# Altium footprint library transistor-pnp.PCBLIB: 37 footprints (part 2 of 3)
Each footprint in its own frame and in the unit in brackets; x right, y up, seen from the top. Pads: shape width x height; smd on the part's side, far side on the other; paste and mask are expansions set on the pad; w line width, h text height; cw(c..) or ccw(c..) is an arc to the next point about the centre after c.
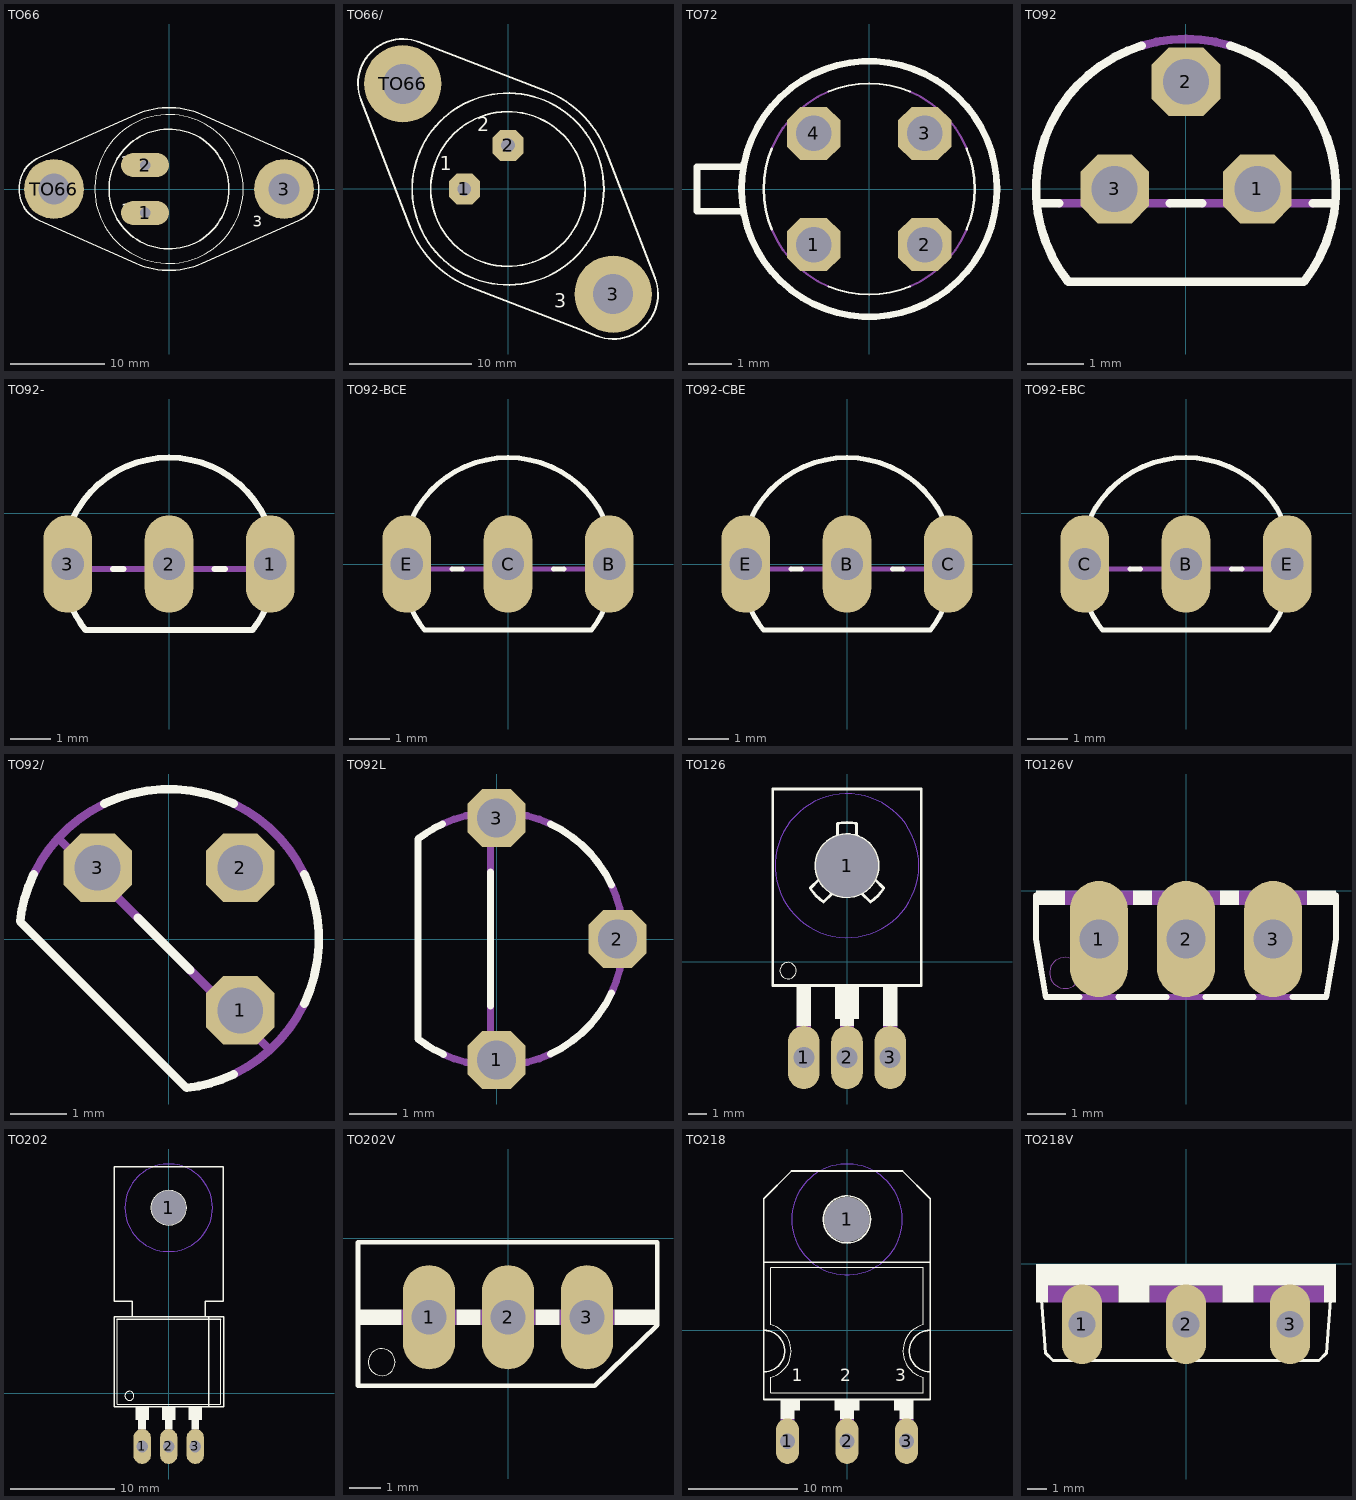
[diagram p1: the footprints below, top view; thin cyan lines are the x and y axes]

## TO66 [mil]
pads (4):
  oval 200x100 hole 44: 1(-100,-100) 2(-100,100)
  round 250 hole 130: 3(480,0) TO66(-480,0)
Top Overlay:
  circle w2: c0,0 r310
  circle w6: c0,0 r250
  lines w6: -539.8,-132.56 cw(c-481.02,-0.01) -539.8,132.54 -137.83,310.83 cw(c0.01,0.03) 137.84,310.83 539.8,132.56 cw(c481.02,-0.01) 539.8,-132.56 137.83,-310.83 cw(c0.01,-0.03) -137.83,-310.83 -539.8,-132.56
  text "3" at 350,-175 h77.5
  text "2" at -200,75 h77.5
  text "1" at -200,-125 h77.5
Mechanical 16:
  circle w6: c-480,0 r75
  circle w6: c480,0 r75

## TO66/ [mil]
pads (4):
  oct 100x100 hole 44: 1(-141,0) 2(0,141)
  round 250 hole 130: 3(340,-340) TO66(-340,340)
Top Overlay:
  circle w6: c0,0 r310
  circle w6: c0,0 r250
  lines w6: -287.98,475.41 ccw(c-340.14,340.11) -475.43,287.95 -317.24,-122.32 ccw(c-0.01,-0.02) -122.31,-317.25 287.95,-475.43 ccw(c340.11,-340.14) 475.41,-287.98 ; -287.95,475.43 122.32,317.24 cw(c0.02,0) 317.26,122.31 475.43,-287.95
  text "1" at -220,45 h77.5
  text "2" at -100,170 h77.5
  text "3" at 150,-400 h77.5
Mechanical 16:
  circle w6: c-339.41,339.41 r75
  circle w6: c339.41,-339.41 r75

## TO72 [mil]
pads (4):
  oct 48x48 hole 32: 1(-50,-50) 2(50,-50) 3(50,50) 4(-50,50)
Top Overlay:
  circle w6: c0,0 r115
  lines w2: -87.68,-36.57 cw(c0,0) -87.68,36.57 ; -36.57,-87.68 ccw(c0,0) 36.57,-87.68 ; -36.57,87.68 cw(c0,0) 36.57,87.68 ; 87.68,-36.57 ccw(c0,0) 87.68,36.57
  lines w6: -114,-20 -155,-20 -155,20 -114,20
Mechanical 16:
  lines w2: -87.68,-36.57 ccw(c0,0) -36.57,-87.68 ; -87.68,36.57 cw(c0,0) -36.57,87.68 ; 36.57,-87.68 ccw(c0,0) 87.68,-36.57 ; 36.57,87.68 cw(c0,0) 87.68,36.57
  text "1" at -65,-65 h77.5
  text "2" at 20,-65 h77.5
  text "3" at 20,15 h77.5
  text "4" at -65,15 h77.5

## TO92 [mil]
pads (3):
  oct 48x48 hole 32: 1(50,0) 2(0,75) 3(-50,0)
Top Overlay:
  lines w6: -104.53,-10 -88.74,-10 ; -82.48,-65 82.48,-65 ccw(c0.02,0) 30.98,100.33 ; -82.46,-65 cw(c0,0) -30.96,100.33 ; -11.26,-10 11.26,-10 ; 88.74,-10 104.53,-10
Mechanical 16:
  lines w6: -88.74,-10 -11.26,-10 ; -30.96,100.33 cw(c0,-0.02) 30.96,100.33 ; 11.26,-10 88.74,-10
  text "1" at 45,0 h77.5
  text "2" at -25,25 h77.5
  text "3" at -85,0 h77.5

## TO92- [mil]
pads (3):
  oval 48x96 hole 32: 1(100,-50) 2(0,-50) 3(-100,-50)
Top Overlay:
  lines w6: -95.02,-94.72 ccw(c-0.02,-49.99) -82.48,-115 82.48,-115 ccw(c0.01,-50) 95.46,-93.77 ; -95,-5.28 cw(c0,-50) 95,-5.28 ; -55.28,-55 -44.72,-55 ; 44.72,-55 55.28,-55
Mechanical 16:
  lines w6: -104.88,-55 -55.28,-55 ; -95,-94.72 cw(c0,-50) -95,-5.28 ; -44.72,-55 44.72,-55 ; 55.28,-55 104.88,-55 ; 95,-94.72 ccw(c0,-50) 95,-5.28

## TO92-BCE [mil]
pads (3):
  oval 48x96 hole 32: B(100,0) C(0,0) E(-100,0)
Top Overlay:
  lines w5: -95.02,-44.72 ccw(c-0.02,0.01) -82.48,-65 82.48,-65 ccw(c0.01,0) 95.46,-43.77 ; -95,44.72 cw(c0,0) 95,44.72 ; -55.28,-5 -44.72,-5 ; 44.72,-5 55.28,-5
Mechanical 16:
  lines w5: -104.88,-5 -55.28,-5 ; -95,-44.72 cw(c0,0) -95,44.72 ; -44.72,-5 44.72,-5 ; 55.28,-5 104.88,-5 ; 95,-44.72 ccw(c0,0) 95,44.72

## TO92-CBE [mil]
pads (3):
  oval 48x96 hole 32: B(0,0) C(100,0) E(-100,0)
Top Overlay:
  lines w5: -95.02,-44.72 ccw(c-0.02,0.01) -82.48,-65 82.48,-65 ccw(c0.01,0) 95.46,-43.77 ; -95,44.72 cw(c0,0) 95,44.72 ; -55.28,-5 -44.72,-5 ; 44.72,-5 55.28,-5
Mechanical 16:
  lines w5: -104.88,-5 -55.28,-5 ; -95,-44.72 cw(c0,0) -95,44.72 ; -44.72,-5 44.72,-5 ; 55.28,-5 104.88,-5 ; 95,-44.72 ccw(c0,0) 95,44.72

## TO92-EBC [mil]
pads (3):
  oval 48x96 hole 32: B(0,-50) C(-100,-50) E(100,-50)
Top Overlay:
  lines w5: -95.02,-94.72 ccw(c-0.02,-49.99) -82.48,-115 82.48,-115 ccw(c0.01,-50) 95.46,-93.77 ; -95,-5.28 cw(c0,-50) 95,-5.28 ; -55.28,-55 -44.72,-55 ; 44.72,-55 55.28,-55
Mechanical 16:
  lines w5: -104.88,-55 -55.28,-55 ; -95,-94.72 cw(c0,-50) -95,-5.28 ; -44.72,-55 44.72,-55 ; 55.28,-55 104.88,-55 ; 95,-94.72 ccw(c0,-50) 95,-5.28

## TO92/ [mil]
pads (3):
  oct 48x48 hole 32: 1(50,-50) 2(50,50) 3(-50,50)
Top Overlay:
  lines w6: -94.77,45.27 ccw(c-0.01,0.03) -104.29,12.36 12.36,-104.29 ccw(c0.03,-0.01) 45.27,-94.77 ; -45.25,94.75 cw(c0,0.01) 45.25,94.75 ; -21.93,14.84 14.84,-21.93 ; 94.75,-45.25 ccw(c0.01,0) 94.75,45.25
Mechanical 16:
  lines w6: -94.75,45.25 cw(c0.01,-0.01) -45.25,94.75 ; -77.72,70.63 -21.93,14.84 ; 14.84,-21.93 70.63,-77.72 ; 45.25,-94.75 ccw(c-0.01,0.01) 94.75,-45.25 ; 45.25,94.75 cw(c-0.01,-0.01) 94.75,45.25

## TO92L [mil]
pads (3):
  oct 48x48 hole 32: 1(0,-100) 2(100,0) 3(0,100)
Top Overlay:
  lines w6: -44.72,95.02 ccw(c0.01,0.02) -65,82.48 -65,-82.48 ccw(c0,-0.01) -43.77,-95.46 ; -5,-55.28 -5,55.28 ; 44.72,-95 ccw(c0,0) 95,-44.72 ; 44.72,95 cw(c0,0) 95,44.72
Mechanical 16:
  lines w6: -44.72,-95 ccw(c0,0) 44.72,-95 ; -44.72,95 cw(c0,0) 44.72,95 ; -5,-104.88 -5,-55.28 ; -5,55.28 -5,104.88 ; 95,-44.72 ccw(c0,0) 95,44.72

## TO126 [mil]
pads (4):
  oval 66x132 hole 44: 1(-90,-200) 2(0,-200) 3(90,-200)
  round 130 hole 130: 1(0,200)
Bottom Layer keep-out:
  circle w0: c0,200 r150
Top Overlay:
  circle w0: c-123,-19 r17
  circle w6: c0,200 r65
  rectangle: -25,-120 25,-50
  rectangle: -105,-135 -75,-50
  rectangle: -15,-135 15,-50
  rectangle: 75,-135 105,-50
  lines w6: -58.23,171.1 -76.73,152.99 ccw(c0.01,200) -48.78,124.38 ; -48.78,124.37 -30.28,142.48 ; -20,261.85 -20,287.76 cw(c0,200.01) 20,287.76 20,261.85 ; 30.28,142.48 48.78,124.37 ccw(c-0.01,199.99) 76.73,152.98 58.23,171.1 ; -155,-50 -155,360 155,360 155,-50 -155,-50
Mechanical 16:
  rectangle: -105,-205 -75,-135
  rectangle: -15,-205 15,-135
  rectangle: 75,-205 105,-135
  text "1" at -100,-35 h77.5
  text "2" at -20,-35 h77.5
  text "3" at 70,-35 h77.5
Via Holes:
  circle w0: c0,200 r150

## TO126V [mil]
pads (3):
  oval 60x120 hole 40: 1(-90,-50) 2(0,-50) 3(90,-50)
Top Overlay:
  rectangle: -155,-15 -125,0
  rectangle: -55,-15 -35,0
  rectangle: 35,-15 55,0
  rectangle: 125,-15 155,0
  lines w6: -155,-5 -155,-50 -145,-110 -110,-110 ; -70,-110 -20,-110 ; 20,-110 70,-110 ; 110,-110 145,-110 155,-50 155,-5
Mechanical 16:
  circle w0: c-125,-85 r16
  rectangle: -125,-15 -55,0
  rectangle: -35,-15 35,0
  rectangle: 55,-15 125,0
  lines w6: -110,-110 -70,-110 ; -20,-110 20,-110 ; 70,-110 110,-110
  text "1" at -100,-75 h77.5
  text "2" at -15,-75 h77.5
  text "3" at 80,-75 h77.5

## TO202 [mil]
pads (4):
  oval 66x132 hole 44: 1(-100,-200) 2(0,-200) 3(100,-200)
  round 130 hole 130: 1(0,700)
Bottom Layer keep-out:
  circle w0: c0,700 r165
Top Overlay:
  circle w0: c-148,-9 r17
  circle w6: c0,700 r65
  rectangle: -25,-100 25,-50
  rectangle: 75,-100 125,-50
  rectangle: -125,-100 -75,-50
  rectangle: 85,-135 115,-100
  rectangle: -15,-135 15,-100
  rectangle: -115,-135 -85,-100
  lines w2: -195,280 -195,-40 195,-40 195,280
  lines w6: -195,280 195,280 ; -138,289 -138,347 -205,347 -205,855 205,855 205,347 138,347 138,289 ; -138,289 -205,289 -205,-50 151,-50 ; -138,289 138,289 ; 138,289 151,289 ; 151,-50 151,289 ; 151,-50 207,-50 207,289 151,289
Mechanical 16:
  rectangle: 85,-200 115,-135
  rectangle: -15,-200 15,-135
  rectangle: -115,-200 -85,-135
Via Holes:
  circle w0: c0,700 r165

## TO202V [mil]
pads (3):
  oval 66x132 hole 44: 1(-100,-100) 2(0,-100) 3(100,-100)
Top Overlay:
  circle w0: c-160,-157 r17
  rectangle: 135,-110 190,-90
  rectangle: 35,-110 65,-90
  rectangle: -65,-110 -35,-90
  rectangle: -190,-110 -135,-90
  lines w6: -190,-187 110,-187 189,-110 189,-5 -190,-5 -190,-187
Mechanical 16:
  rectangle: -135,-110 -65,-90
  rectangle: -35,-110 35,-90
  rectangle: 65,-110 135,-90
  text "1" at -125,-75 h77.5
  text "2" at -25,-75 h77.5
  text "3" at 75,-75 h77.5

## TO218 [mil]
pads (4):
  oval 82.5x165 hole 55: 1(-215,-400) 2(0,-400) 3(215,-400)
  round 162 hole 162: 1(0,400)
Bottom Layer keep-out:
  circle w0: c0,400 r200
Top Overlay:
  circle w6: c0,400 r85
  rectangle: -240,-290 -170,-250
  rectangle: 170,-290 240,-250
  rectangle: -45,-290 45,-250
  rectangle: -240,-320 -190,-250
  rectangle: -25,-320 25,-250
  rectangle: 190,-320 240,-250
  lines w2: 273.71,19.65 ccw(c300,-75) 275,-169.99 275,-225 -275,-225 -275,-170 ccw(c-300,-75) -275,20 -275,225 275,225 275,20
  lines w6: -300,-150 -300,-250 300,-250 300,-150 ; -300,-150 -300,0 ; -300,-150 ccw(c-300,-75) -300,0 ; -300,0 -300,245 ; -300,245 300,245 ; -300,245 -300,475 -200,575 200,575 300,475 300,245 ; 300,-150 300,0 ; 300,-150 cw(c300,-75) 300,0 ; 300,0 300,245
  text "1" at -200,-200 h77.5
  text "2" at -25,-200 h77.5
  text "3" at 175,-200 h77.5
Mechanical 16:
  rectangle: -240,-405 -190,-320
  rectangle: -25,-405 25,-320
  rectangle: 190,-405 240,-320
Via Holes:
  circle w0: c0,400 r200

## TO218V [mil]
pads (3):
  oval 82.5x165 hole 55: 1(-215,-125) 2(0,-125) 3(215,-125)
Top Overlay:
  rectangle: -310,-45 310,0
  rectangle: -140,-80 -75,-45
  rectangle: 75,-80 140,-45
  rectangle: -310,-80 -285,-45
  rectangle: 285,-80 310,-45
  lines w6: -300,-60 -290,-185 -275,-200 275,-200 290,-185 300,-60
Mechanical 16:
  rectangle: 140,-80 285,-45
  rectangle: -285,-80 -140,-45
  rectangle: -75,-80 75,-45
  text "1" at -240,-175 h77.5
  text "2" at -25,-175 h77.5
  text "3" at 190,-175 h77.5